# Altium integrated library Atmel Smart RF.IntLib: 33 symbols
Pins are listed as number, name and electrical type; pins without a type are passive.

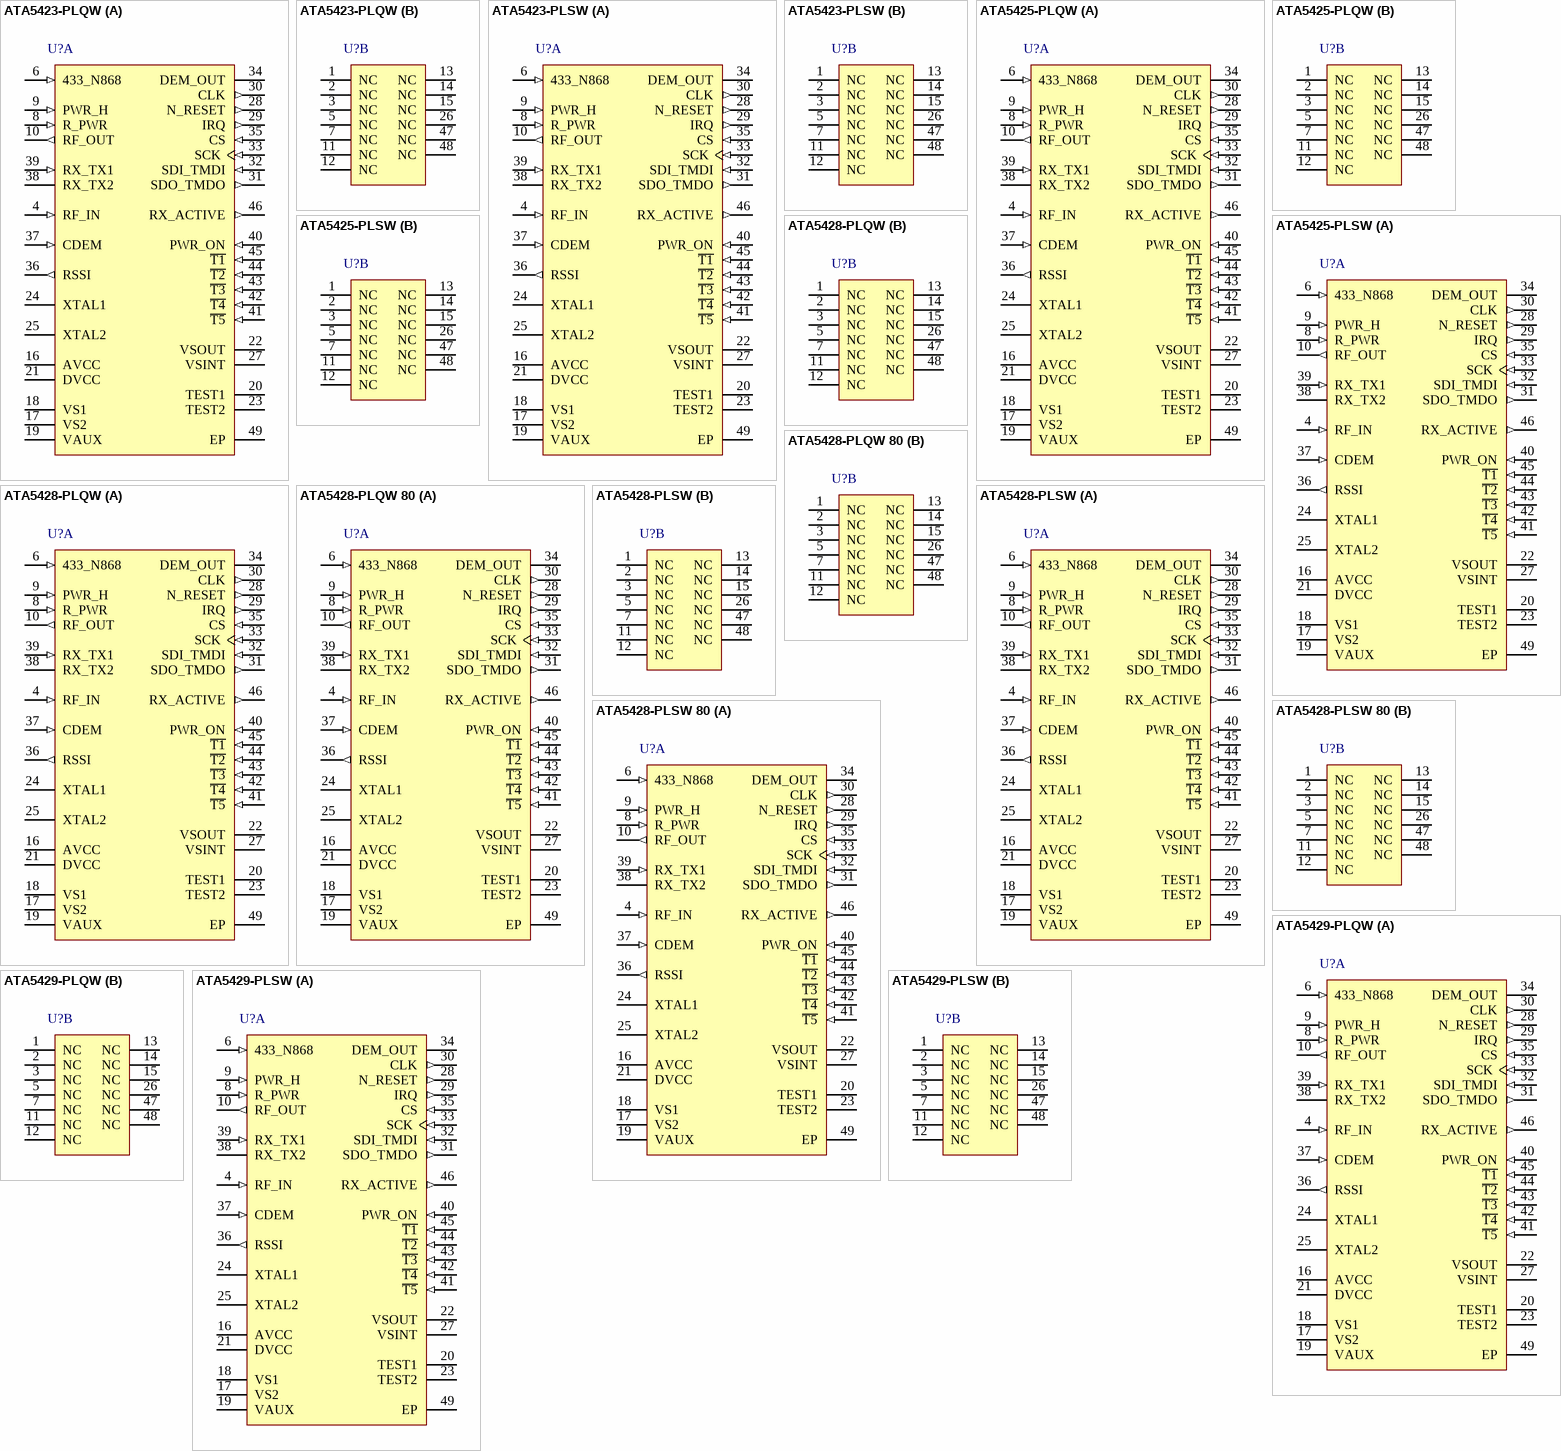
[diagram p0: symbols ATA5423-PLQW to ATA5429-PLSW]

## ATA5423-PLQW
designator U?
UHF ASK/FSK Transceiver 315MHz, 48-Pin QFN, RoHS Compliant, Reel; DatasheetVersion: revD, Oct-2007; PackageVersion: rev1, Jan-2003; PackageReference: 48QFN7X7; PackageDescription: 48-Pin Quad Flat No-Lead, Sawn, 7 x 7 x 1 mm Body, 0.5 mm Pitch, 5.1 mm Exposed Pad; ComponentLink1Description: Manufacturer URL; ComponentLink1URL: http://www.atmel.com/; ComponentLink2Description: Datasheet; ComponentLink2URL: http://www.atmel.com/Images/doc4841.pdf
footprint 48QFN7X7_N (QFN, 48-Leads, Body 7x7mm, Pitch 0.5mm, Thermal Pad 5.2x5.2mm, IPC Medium Density)
footprint 48QFN7X7_L (QFN, 48-Leads, Body 7x7mm, Pitch 0.5mm, Thermal Pad 5.2x5.2mm, IPC High Density)
footprint 48QFN7X7_M (QFN, 48-Leads, Body 7x7mm, Pitch 0.5mm, Thermal Pad 5.2x5.2mm, IPC Low Density)
part A pins: 4 RF_IN (in), 6 433_N868 (in), 8 R_PWR (in), 9 PWR_H (in), 10 RF_OUT (out), 16 AVCC (power), 17 VS2 (power), 18 VS1 (power), 19 VAUX (power), 20 TEST1 (power), 21 DVCC (power), 22 VSOUT (power), 23 TEST2 (power), 24 XTAL1, 25 XTAL2, 27 VSINT (power), 28 N_RESET (out), 29 IRQ (out), 30 CLK (out), 31 SDO_TMDO (out), 32 SDI_TMDI (in), 33 SCK (in), 34 DEM_OUT (oc), 35 CS (in), 36 RSSI (out), 37 CDEM (in), 38 RX_TX2 (power), 39 RX_TX1 (in), 40 PWR_ON (in), 41 ~{T5} (in), 42 ~{T4} (in), 43 ~{T3} (in), 44 ~{T2} (in), 45 ~{T1} (in), 46 RX_ACTIVE (out), 49 EP (power)
part B pins: 1 NC (power), 2 NC (power), 3 NC (power), 5 NC (power), 7 NC (power), 11 NC (power), 12 NC (power), 13 NC (power), 14 NC (power), 15 NC (power), 26 NC (power), 47 NC (power), 48 NC (power)

## ATA5423-PLSW
designator U?
UHF ASK/FSK Transceiver 315MHz, 48-Pin QFN, RoHS Compliant, Tube; DatasheetVersion: revD, Oct-2007; PackageVersion: rev1, Jan-2003; PackageReference: 48QFN7X7; PackageDescription: 48-Pin Quad Flat No-Lead, Sawn, 7 x 7 x 1 mm Body, 0.5 mm Pitch, 5.1 mm Exposed Pad; ComponentLink1Description: Manufacturer URL; ComponentLink1URL: http://www.atmel.com/; ComponentLink2Description: Datasheet; ComponentLink2URL: http://www.atmel.com/Images/doc4841.pdf
footprint 48QFN7X7_N (QFN, 48-Leads, Body 7x7mm, Pitch 0.5mm, Thermal Pad 5.2x5.2mm, IPC Medium Density)
footprint 48QFN7X7_L (QFN, 48-Leads, Body 7x7mm, Pitch 0.5mm, Thermal Pad 5.2x5.2mm, IPC High Density)
footprint 48QFN7X7_M (QFN, 48-Leads, Body 7x7mm, Pitch 0.5mm, Thermal Pad 5.2x5.2mm, IPC Low Density)
part A pins: 4 RF_IN (in), 6 433_N868 (in), 8 R_PWR (in), 9 PWR_H (in), 10 RF_OUT (out), 16 AVCC (power), 17 VS2 (power), 18 VS1 (power), 19 VAUX (power), 20 TEST1 (power), 21 DVCC (power), 22 VSOUT (power), 23 TEST2 (power), 24 XTAL1, 25 XTAL2, 27 VSINT (power), 28 N_RESET (out), 29 IRQ (out), 30 CLK (out), 31 SDO_TMDO (out), 32 SDI_TMDI (in), 33 SCK (in), 34 DEM_OUT (oc), 35 CS (in), 36 RSSI (out), 37 CDEM (in), 38 RX_TX2 (power), 39 RX_TX1 (in), 40 PWR_ON (in), 41 ~{T5} (in), 42 ~{T4} (in), 43 ~{T3} (in), 44 ~{T2} (in), 45 ~{T1} (in), 46 RX_ACTIVE (out), 49 EP (power)
part B pins: 1 NC (power), 2 NC (power), 3 NC (power), 5 NC (power), 7 NC (power), 11 NC (power), 12 NC (power), 13 NC (power), 14 NC (power), 15 NC (power), 26 NC (power), 47 NC (power), 48 NC (power)

## ATA5425-PLQW
designator U?
UHF ASK/FSK Transceiver 345MHz, 48-Pin QFN, RoHS Compliant, Reel; DatasheetVersion: revD, Oct-2007; PackageVersion: rev1, Jan-2003; PackageReference: 48QFN7X7; PackageDescription: 48-Pin Quad Flat No-Lead, Sawn, 7 x 7 x 1 mm Body, 0.5 mm Pitch, 5.1 mm Exposed Pad; ComponentLink1Description: Manufacturer URL; ComponentLink1URL: http://www.atmel.com/; ComponentLink2Description: Datasheet; ComponentLink2URL: http://www.atmel.com/Images/doc4841.pdf
footprint 48QFN7X7_N (QFN, 48-Leads, Body 7x7mm, Pitch 0.5mm, Thermal Pad 5.2x5.2mm, IPC Medium Density)
footprint 48QFN7X7_L (QFN, 48-Leads, Body 7x7mm, Pitch 0.5mm, Thermal Pad 5.2x5.2mm, IPC High Density)
footprint 48QFN7X7_M (QFN, 48-Leads, Body 7x7mm, Pitch 0.5mm, Thermal Pad 5.2x5.2mm, IPC Low Density)
part A pins: 4 RF_IN (in), 6 433_N868 (in), 8 R_PWR (in), 9 PWR_H (in), 10 RF_OUT (out), 16 AVCC (power), 17 VS2 (power), 18 VS1 (power), 19 VAUX (power), 20 TEST1 (power), 21 DVCC (power), 22 VSOUT (power), 23 TEST2 (power), 24 XTAL1, 25 XTAL2, 27 VSINT (power), 28 N_RESET (out), 29 IRQ (out), 30 CLK (out), 31 SDO_TMDO (out), 32 SDI_TMDI (in), 33 SCK (in), 34 DEM_OUT (oc), 35 CS (in), 36 RSSI (out), 37 CDEM (in), 38 RX_TX2 (power), 39 RX_TX1 (in), 40 PWR_ON (in), 41 ~{T5} (in), 42 ~{T4} (in), 43 ~{T3} (in), 44 ~{T2} (in), 45 ~{T1} (in), 46 RX_ACTIVE (out), 49 EP (power)
part B pins: 1 NC (power), 2 NC (power), 3 NC (power), 5 NC (power), 7 NC (power), 11 NC (power), 12 NC (power), 13 NC (power), 14 NC (power), 15 NC (power), 26 NC (power), 47 NC (power), 48 NC (power)

## ATA5425-PLSW
designator U?
UHF ASK/FSK Transceiver 345MHz, 48-Pin QFN, RoHS Compliant, Tube; DatasheetVersion: revD, Oct-2007; PackageVersion: rev1, Jan-2003; PackageReference: 48QFN7X7; PackageDescription: 48-Pin Quad Flat No-Lead, Sawn, 7 x 7 x 1 mm Body, 0.5 mm Pitch, 5.1 mm Exposed Pad; ComponentLink1Description: Manufacturer URL; ComponentLink1URL: http://www.atmel.com/; ComponentLink2Description: Datasheet; ComponentLink2URL: http://www.atmel.com/Images/doc4841.pdf
footprint 48QFN7X7_N (QFN, 48-Leads, Body 7x7mm, Pitch 0.5mm, Thermal Pad 5.2x5.2mm, IPC Medium Density)
footprint 48QFN7X7_L (QFN, 48-Leads, Body 7x7mm, Pitch 0.5mm, Thermal Pad 5.2x5.2mm, IPC High Density)
footprint 48QFN7X7_M (QFN, 48-Leads, Body 7x7mm, Pitch 0.5mm, Thermal Pad 5.2x5.2mm, IPC Low Density)
part A pins: 4 RF_IN (in), 6 433_N868 (in), 8 R_PWR (in), 9 PWR_H (in), 10 RF_OUT (out), 16 AVCC (power), 17 VS2 (power), 18 VS1 (power), 19 VAUX (power), 20 TEST1 (power), 21 DVCC (power), 22 VSOUT (power), 23 TEST2 (power), 24 XTAL1, 25 XTAL2, 27 VSINT (power), 28 N_RESET (out), 29 IRQ (out), 30 CLK (out), 31 SDO_TMDO (out), 32 SDI_TMDI (in), 33 SCK (in), 34 DEM_OUT (oc), 35 CS (in), 36 RSSI (out), 37 CDEM (in), 38 RX_TX2 (power), 39 RX_TX1 (in), 40 PWR_ON (in), 41 ~{T5} (in), 42 ~{T4} (in), 43 ~{T3} (in), 44 ~{T2} (in), 45 ~{T1} (in), 46 RX_ACTIVE (out), 49 EP (power)
part B pins: 1 NC (power), 2 NC (power), 3 NC (power), 5 NC (power), 7 NC (power), 11 NC (power), 12 NC (power), 13 NC (power), 14 NC (power), 15 NC (power), 26 NC (power), 47 NC (power), 48 NC (power)

## ATA5428-PLQW
designator U?
UHF ASK/FSK Transceiver 433 and 868MHz, 48-Pin QFN, RoHS Compliant, Reel; DatasheetVersion: revD, Oct-2007; PackageVersion: rev1, Jan-2003; PackageReference: 48QFN7X7; PackageDescription: 48-Pin Quad Flat No-Lead, Sawn, 7 x 7 x 1 mm Body, 0.5 mm Pitch, 5.1 mm Exposed Pad; ComponentLink1Description: Manufacturer URL; ComponentLink1URL: http://www.atmel.com/; ComponentLink2Description: Datasheet; ComponentLink2URL: http://www.atmel.com/Images/doc4841.pdf
footprint 48QFN7X7_N (QFN, 48-Leads, Body 7x7mm, Pitch 0.5mm, Thermal Pad 5.2x5.2mm, IPC Medium Density)
footprint 48QFN7X7_L (QFN, 48-Leads, Body 7x7mm, Pitch 0.5mm, Thermal Pad 5.2x5.2mm, IPC High Density)
footprint 48QFN7X7_M (QFN, 48-Leads, Body 7x7mm, Pitch 0.5mm, Thermal Pad 5.2x5.2mm, IPC Low Density)
part A pins: 4 RF_IN (in), 6 433_N868 (in), 8 R_PWR (in), 9 PWR_H (in), 10 RF_OUT (out), 16 AVCC (power), 17 VS2 (power), 18 VS1 (power), 19 VAUX (power), 20 TEST1 (power), 21 DVCC (power), 22 VSOUT (power), 23 TEST2 (power), 24 XTAL1, 25 XTAL2, 27 VSINT (power), 28 N_RESET (out), 29 IRQ (out), 30 CLK (out), 31 SDO_TMDO (out), 32 SDI_TMDI (in), 33 SCK (in), 34 DEM_OUT (oc), 35 CS (in), 36 RSSI (out), 37 CDEM (in), 38 RX_TX2 (power), 39 RX_TX1 (in), 40 PWR_ON (in), 41 ~{T5} (in), 42 ~{T4} (in), 43 ~{T3} (in), 44 ~{T2} (in), 45 ~{T1} (in), 46 RX_ACTIVE (out), 49 EP (power)
part B pins: 1 NC (power), 2 NC (power), 3 NC (power), 5 NC (power), 7 NC (power), 11 NC (power), 12 NC (power), 13 NC (power), 14 NC (power), 15 NC (power), 26 NC (power), 47 NC (power), 48 NC (power)

## ATA5428-PLQW 80
designator U?
UHF ASK/FSK Transceiver 433 and 868MHz, 48-Pin QFN, RoHS Compliant, Reel; DatasheetVersion: revD, Oct-2007; PackageVersion: rev1, Jan-2003; PackageReference: 48QFN7X7; PackageDescription: 48-Pin Quad Flat No-Lead, Sawn, 7 x 7 x 1 mm Body, 0.5 mm Pitch, 5.1 mm Exposed Pad; ComponentLink1Description: Manufacturer URL; ComponentLink1URL: http://www.atmel.com/; ComponentLink2Description: Datasheet; ComponentLink2URL: http://www.atmel.com/Images/doc4841.pdf
footprint 48QFN7X7_N (QFN, 48-Leads, Body 7x7mm, Pitch 0.5mm, Thermal Pad 5.2x5.2mm, IPC Medium Density)
footprint 48QFN7X7_L (QFN, 48-Leads, Body 7x7mm, Pitch 0.5mm, Thermal Pad 5.2x5.2mm, IPC High Density)
footprint 48QFN7X7_M (QFN, 48-Leads, Body 7x7mm, Pitch 0.5mm, Thermal Pad 5.2x5.2mm, IPC Low Density)
part A pins: 4 RF_IN (in), 6 433_N868 (in), 8 R_PWR (in), 9 PWR_H (in), 10 RF_OUT (out), 16 AVCC (power), 17 VS2 (power), 18 VS1 (power), 19 VAUX (power), 20 TEST1 (power), 21 DVCC (power), 22 VSOUT (power), 23 TEST2 (power), 24 XTAL1, 25 XTAL2, 27 VSINT (power), 28 N_RESET (out), 29 IRQ (out), 30 CLK (out), 31 SDO_TMDO (out), 32 SDI_TMDI (in), 33 SCK (in), 34 DEM_OUT (oc), 35 CS (in), 36 RSSI (out), 37 CDEM (in), 38 RX_TX2 (power), 39 RX_TX1 (in), 40 PWR_ON (in), 41 ~{T5} (in), 42 ~{T4} (in), 43 ~{T3} (in), 44 ~{T2} (in), 45 ~{T1} (in), 46 RX_ACTIVE (out), 49 EP (power)
part B pins: 1 NC (power), 2 NC (power), 3 NC (power), 5 NC (power), 7 NC (power), 11 NC (power), 12 NC (power), 13 NC (power), 14 NC (power), 15 NC (power), 26 NC (power), 47 NC (power), 48 NC (power)

## ATA5428-PLSW
designator U?
UHF ASK/FSK Transceiver 433 and 868MHz, 48-Pin QFN, RoHS Compliant, Tube; DatasheetVersion: revD, Oct-2007; PackageVersion: rev1, Jan-2003; PackageReference: 48QFN7X7; PackageDescription: 48-Pin Quad Flat No-Lead, Sawn, 7 x 7 x 1 mm Body, 0.5 mm Pitch, 5.1 mm Exposed Pad; ComponentLink1Description: Manufacturer URL; ComponentLink1URL: http://www.atmel.com/; ComponentLink2Description: Datasheet; ComponentLink2URL: http://www.atmel.com/Images/doc4841.pdf
footprint 48QFN7X7_N (QFN, 48-Leads, Body 7x7mm, Pitch 0.5mm, Thermal Pad 5.2x5.2mm, IPC Medium Density)
footprint 48QFN7X7_L (QFN, 48-Leads, Body 7x7mm, Pitch 0.5mm, Thermal Pad 5.2x5.2mm, IPC High Density)
footprint 48QFN7X7_M (QFN, 48-Leads, Body 7x7mm, Pitch 0.5mm, Thermal Pad 5.2x5.2mm, IPC Low Density)
part A pins: 4 RF_IN (in), 6 433_N868 (in), 8 R_PWR (in), 9 PWR_H (in), 10 RF_OUT (out), 16 AVCC (power), 17 VS2 (power), 18 VS1 (power), 19 VAUX (power), 20 TEST1 (power), 21 DVCC (power), 22 VSOUT (power), 23 TEST2 (power), 24 XTAL1, 25 XTAL2, 27 VSINT (power), 28 N_RESET (out), 29 IRQ (out), 30 CLK (out), 31 SDO_TMDO (out), 32 SDI_TMDI (in), 33 SCK (in), 34 DEM_OUT (oc), 35 CS (in), 36 RSSI (out), 37 CDEM (in), 38 RX_TX2 (power), 39 RX_TX1 (in), 40 PWR_ON (in), 41 ~{T5} (in), 42 ~{T4} (in), 43 ~{T3} (in), 44 ~{T2} (in), 45 ~{T1} (in), 46 RX_ACTIVE (out), 49 EP (power)
part B pins: 1 NC (power), 2 NC (power), 3 NC (power), 5 NC (power), 7 NC (power), 11 NC (power), 12 NC (power), 13 NC (power), 14 NC (power), 15 NC (power), 26 NC (power), 47 NC (power), 48 NC (power)

## ATA5428-PLSW 80
designator U?
UHF ASK/FSK Transceiver 433 and 868MHz, 48-Pin QFN, RoHS Compliant, Tube; DatasheetVersion: revD, Oct-2007; PackageVersion: rev1, Jan-2003; PackageReference: 48QFN7X7; PackageDescription: 48-Pin Quad Flat No-Lead, Sawn, 7 x 7 x 1 mm Body, 0.5 mm Pitch, 5.1 mm Exposed Pad; ComponentLink1Description: Manufacturer URL; ComponentLink1URL: http://www.atmel.com/; ComponentLink2Description: Datasheet; ComponentLink2URL: http://www.atmel.com/Images/doc4841.pdf
footprint 48QFN7X7_N (QFN, 48-Leads, Body 7x7mm, Pitch 0.5mm, Thermal Pad 5.2x5.2mm, IPC Medium Density)
footprint 48QFN7X7_L (QFN, 48-Leads, Body 7x7mm, Pitch 0.5mm, Thermal Pad 5.2x5.2mm, IPC High Density)
footprint 48QFN7X7_M (QFN, 48-Leads, Body 7x7mm, Pitch 0.5mm, Thermal Pad 5.2x5.2mm, IPC Low Density)
part A pins: 4 RF_IN (in), 6 433_N868 (in), 8 R_PWR (in), 9 PWR_H (in), 10 RF_OUT (out), 16 AVCC (power), 17 VS2 (power), 18 VS1 (power), 19 VAUX (power), 20 TEST1 (power), 21 DVCC (power), 22 VSOUT (power), 23 TEST2 (power), 24 XTAL1, 25 XTAL2, 27 VSINT (power), 28 N_RESET (out), 29 IRQ (out), 30 CLK (out), 31 SDO_TMDO (out), 32 SDI_TMDI (in), 33 SCK (in), 34 DEM_OUT (oc), 35 CS (in), 36 RSSI (out), 37 CDEM (in), 38 RX_TX2 (power), 39 RX_TX1 (in), 40 PWR_ON (in), 41 ~{T5} (in), 42 ~{T4} (in), 43 ~{T3} (in), 44 ~{T2} (in), 45 ~{T1} (in), 46 RX_ACTIVE (out), 49 EP (power)
part B pins: 1 NC (power), 2 NC (power), 3 NC (power), 5 NC (power), 7 NC (power), 11 NC (power), 12 NC (power), 13 NC (power), 14 NC (power), 15 NC (power), 26 NC (power), 47 NC (power), 48 NC (power)

## ATA5429-PLQW
designator U?
UHF ASK/FSK Transceiver 915MHz, 48-Pin QFN, RoHS Compliant, Reel; DatasheetVersion: revD, Oct-2007; PackageVersion: rev1, Jan-2003; PackageReference: 48QFN7X7; PackageDescription: 48-Pin Quad Flat No-Lead, Sawn, 7 x 7 x 1 mm Body, 0.5 mm Pitch, 5.1 mm Exposed Pad; ComponentLink1Description: Manufacturer URL; ComponentLink1URL: http://www.atmel.com/; ComponentLink2Description: Datasheet; ComponentLink2URL: http://www.atmel.com/Images/doc4841.pdf
footprint 48QFN7X7_N (QFN, 48-Leads, Body 7x7mm, Pitch 0.5mm, Thermal Pad 5.2x5.2mm, IPC Medium Density)
footprint 48QFN7X7_L (QFN, 48-Leads, Body 7x7mm, Pitch 0.5mm, Thermal Pad 5.2x5.2mm, IPC High Density)
footprint 48QFN7X7_M (QFN, 48-Leads, Body 7x7mm, Pitch 0.5mm, Thermal Pad 5.2x5.2mm, IPC Low Density)
part A pins: 4 RF_IN (in), 6 433_N868 (in), 8 R_PWR (in), 9 PWR_H (in), 10 RF_OUT (out), 16 AVCC (power), 17 VS2 (power), 18 VS1 (power), 19 VAUX (power), 20 TEST1 (power), 21 DVCC (power), 22 VSOUT (power), 23 TEST2 (power), 24 XTAL1, 25 XTAL2, 27 VSINT (power), 28 N_RESET (out), 29 IRQ (out), 30 CLK (out), 31 SDO_TMDO (out), 32 SDI_TMDI (in), 33 SCK (in), 34 DEM_OUT (oc), 35 CS (in), 36 RSSI (out), 37 CDEM (in), 38 RX_TX2 (power), 39 RX_TX1 (in), 40 PWR_ON (in), 41 ~{T5} (in), 42 ~{T4} (in), 43 ~{T3} (in), 44 ~{T2} (in), 45 ~{T1} (in), 46 RX_ACTIVE (out), 49 EP (power)
part B pins: 1 NC (power), 2 NC (power), 3 NC (power), 5 NC (power), 7 NC (power), 11 NC (power), 12 NC (power), 13 NC (power), 14 NC (power), 15 NC (power), 26 NC (power), 47 NC (power), 48 NC (power)

## ATA5429-PLSW
designator U?
UHF ASK/FSK Transceiver 915MHz, 48-Pin QFN, RoHS Compliant, Tube; DatasheetVersion: revD, Oct-2007; PackageVersion: rev1, Jan-2003; PackageReference: 48QFN7X7; PackageDescription: 48-Pin Quad Flat No-Lead, Sawn, 7 x 7 x 1 mm Body, 0.5 mm Pitch, 5.1 mm Exposed Pad; ComponentLink1Description: Manufacturer URL; ComponentLink1URL: http://www.atmel.com/; ComponentLink2Description: Datasheet; ComponentLink2URL: http://www.atmel.com/Images/doc4841.pdf
footprint 48QFN7X7_N (QFN, 48-Leads, Body 7x7mm, Pitch 0.5mm, Thermal Pad 5.2x5.2mm, IPC Medium Density)
footprint 48QFN7X7_L (QFN, 48-Leads, Body 7x7mm, Pitch 0.5mm, Thermal Pad 5.2x5.2mm, IPC High Density)
footprint 48QFN7X7_M (QFN, 48-Leads, Body 7x7mm, Pitch 0.5mm, Thermal Pad 5.2x5.2mm, IPC Low Density)
part A pins: 4 RF_IN (in), 6 433_N868 (in), 8 R_PWR (in), 9 PWR_H (in), 10 RF_OUT (out), 16 AVCC (power), 17 VS2 (power), 18 VS1 (power), 19 VAUX (power), 20 TEST1 (power), 21 DVCC (power), 22 VSOUT (power), 23 TEST2 (power), 24 XTAL1, 25 XTAL2, 27 VSINT (power), 28 N_RESET (out), 29 IRQ (out), 30 CLK (out), 31 SDO_TMDO (out), 32 SDI_TMDI (in), 33 SCK (in), 34 DEM_OUT (oc), 35 CS (in), 36 RSSI (out), 37 CDEM (in), 38 RX_TX2 (power), 39 RX_TX1 (in), 40 PWR_ON (in), 41 ~{T5} (in), 42 ~{T4} (in), 43 ~{T3} (in), 44 ~{T2} (in), 45 ~{T1} (in), 46 RX_ACTIVE (out), 49 EP (power)
part B pins: 1 NC (power), 2 NC (power), 3 NC (power), 5 NC (power), 7 NC (power), 11 NC (power), 12 NC (power), 13 NC (power), 14 NC (power), 15 NC (power), 26 NC (power), 47 NC (power), 48 NC (power)

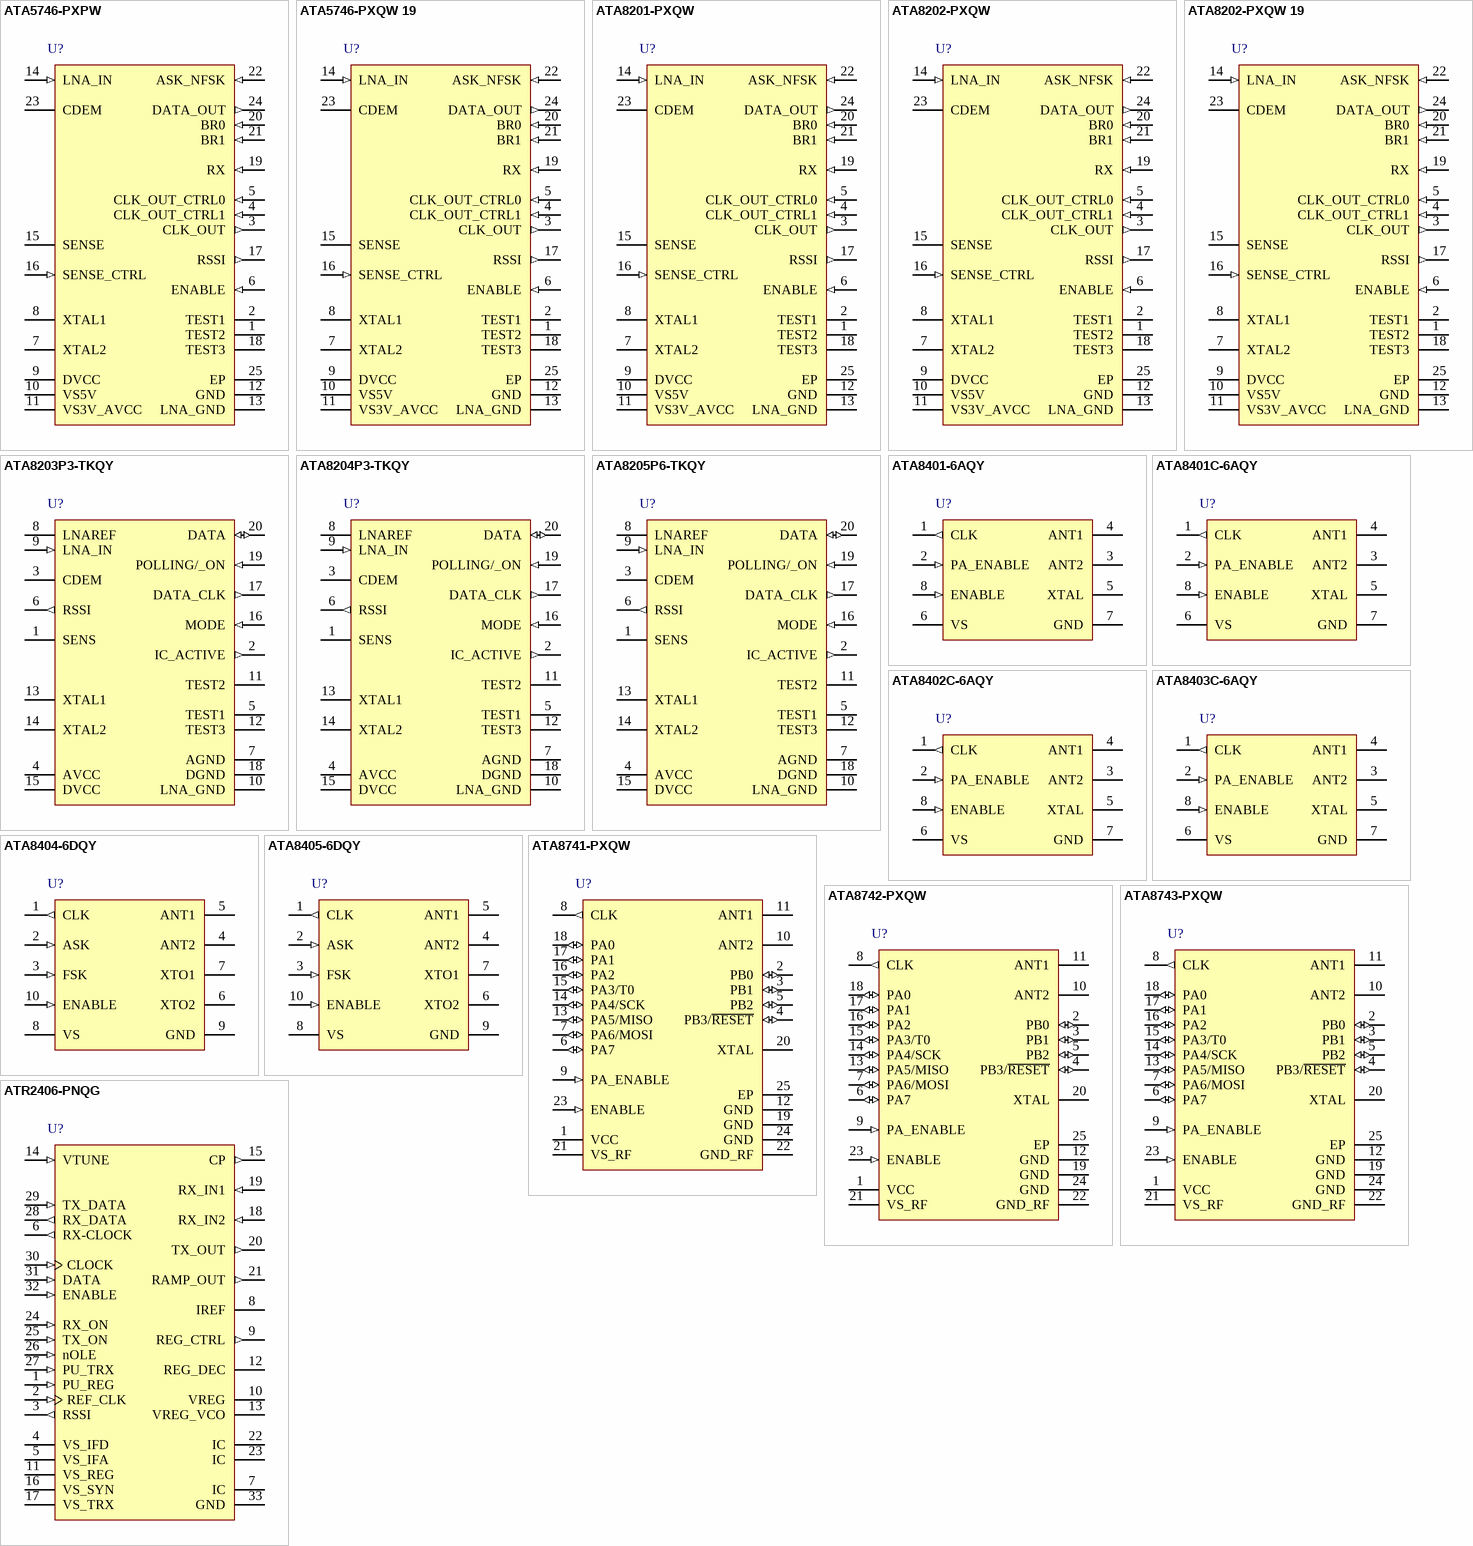
[diagram p1: symbols ATA5746-PXPW to ATR2406-PNQG]

## ATA5746-PXPW
designator U?
UHF ASK/FSK Receiver 315MHz, 24-Pin QFN; DatasheetVersion: revC, Apr-2009; PackageVersion: rev1, Nov-2005; PackageReference: 24QFN5X5; PackageDescription: 24-Pin Quad Flat No-Lead, 5 x 5 mm Body, 0.65 mm Pitch, 3.6 x 3.6 mm Exposed Pad; Code_JEDEC: MO-220; ComponentLink1Description: Manufacturer URL; ComponentLink1URL: http://www.atmel.com/; ComponentLink2Description: Datasheet; ComponentLink2URL: http://www.atmel.com/Images/doc4971.pdf
footprint 24QFN5X5_N (QFN, 24-Leads, Body 5x5mm, Pitch 0.65mm, Thermal Pad 3.7x3.7mm, IPC Medium Density)
footprint 24QFN5X5_L (QFN, 24-Leads, Body 5x5mm, Pitch 0.65mm, Thermal Pad 3.7x3.7mm, IPC High Density)
footprint 24QFN5X5_M (QFN, 24-Leads, Body 5x5mm, Pitch 0.65mm, Thermal Pad 3.7x3.7mm, IPC Low Density)
pins: 1 TEST2 (power), 2 TEST1 (power), 3 CLK_OUT (out), 4 CLK_OUT_CTRL1 (in), 5 CLK_OUT_CTRL0 (in), 6 ENABLE (in), 7 XTAL2, 8 XTAL1, 9 DVCC (power), 10 VS5V (power), 11 VS3V_AVCC (power), 12 GND (power), 13 LNA_GND (power), 14 LNA_IN (in), 15 SENSE, 16 SENSE_CTRL (in), 17 RSSI (out), 18 TEST3 (power), 19 RX (in), 20 BR0 (in), 21 BR1 (in), 22 ASK_NFSK (in), 23 CDEM, 24 DATA_OUT (out), 25 EP (power)

## ATA5746-PXQW 19
designator U?
UHF ASK/FSK Receiver 315MHz, 24-Pin QFN; DatasheetVersion: revC, Apr-2009; PackageVersion: rev1, Nov-2005; PackageReference: 24QFN5X5; PackageDescription: 24-Pin Quad Flat No-Lead, 5 x 5 mm Body, 0.65 mm Pitch, 3.6 x 3.6 mm Exposed Pad; Code_JEDEC: MO-220; ComponentLink1Description: Manufacturer URL; ComponentLink1URL: http://www.atmel.com/; ComponentLink2Description: Datasheet; ComponentLink2URL: http://www.atmel.com/Images/doc4971.pdf
footprint 24QFN5X5_N (QFN, 24-Leads, Body 5x5mm, Pitch 0.65mm, Thermal Pad 3.7x3.7mm, IPC Medium Density)
footprint 24QFN5X5_L (QFN, 24-Leads, Body 5x5mm, Pitch 0.65mm, Thermal Pad 3.7x3.7mm, IPC High Density)
footprint 24QFN5X5_M (QFN, 24-Leads, Body 5x5mm, Pitch 0.65mm, Thermal Pad 3.7x3.7mm, IPC Low Density)
pins: 1 TEST2 (power), 2 TEST1 (power), 3 CLK_OUT (out), 4 CLK_OUT_CTRL1 (in), 5 CLK_OUT_CTRL0 (in), 6 ENABLE (in), 7 XTAL2, 8 XTAL1, 9 DVCC (power), 10 VS5V (power), 11 VS3V_AVCC (power), 12 GND (power), 13 LNA_GND (power), 14 LNA_IN (in), 15 SENSE, 16 SENSE_CTRL (in), 17 RSSI (out), 18 TEST3 (power), 19 RX (in), 20 BR0 (in), 21 BR1 (in), 22 ASK_NFSK (in), 23 CDEM, 24 DATA_OUT (out), 25 EP (power)

## ATA8201-PXQW
designator U?
UHF ASK/FSK Receiver 315MHz, 24-Pin QFN, Pb-Free, 6000 pcs.; DatasheetVersion: revC, Apr-2009; PackageVersion: rev1, Nov-2005; PackageReference: 24QFN5X5; PackageDescription: 24-Pin Quad Flat No-Lead, 5 x 5 mm Body, 0.65 mm Pitch, 3.6 x 3.6 mm Exposed Pad; Code_JEDEC: MO-220; ComponentLink1Description: Manufacturer URL; ComponentLink1URL: http://www.atmel.com/; ComponentLink2Description: Datasheet; ComponentLink2URL: http://www.atmel.com/Images/doc4971.pdf
footprint 24QFN5X5_N (QFN, 24-Leads, Body 5x5mm, Pitch 0.65mm, Thermal Pad 3.7x3.7mm, IPC Medium Density)
footprint 24QFN5X5_L (QFN, 24-Leads, Body 5x5mm, Pitch 0.65mm, Thermal Pad 3.7x3.7mm, IPC High Density)
footprint 24QFN5X5_M (QFN, 24-Leads, Body 5x5mm, Pitch 0.65mm, Thermal Pad 3.7x3.7mm, IPC Low Density)
pins: 1 TEST2 (power), 2 TEST1 (power), 3 CLK_OUT (out), 4 CLK_OUT_CTRL1 (in), 5 CLK_OUT_CTRL0 (in), 6 ENABLE (in), 7 XTAL2, 8 XTAL1, 9 DVCC (power), 10 VS5V (power), 11 VS3V_AVCC (power), 12 GND (power), 13 LNA_GND (power), 14 LNA_IN (in), 15 SENSE, 16 SENSE_CTRL (in), 17 RSSI (out), 18 TEST3 (power), 19 RX (in), 20 BR0 (in), 21 BR1 (in), 22 ASK_NFSK (in), 23 CDEM, 24 DATA_OUT (out), 25 EP (power)

## ATA8202-PXQW
designator U?
UHF ASK/FSK Receiver 315MHz, 24-Pin QFN, Pb-Free, 6000 pcs.; DatasheetVersion: revC, Apr-2009; PackageVersion: rev1, Nov-2005; PackageReference: 24QFN5X5; PackageDescription: 24-Pin Quad Flat No-Lead, 5 x 5 mm Body, 0.65 mm Pitch, 3.6 x 3.6 mm Exposed Pad; Code_JEDEC: MO-220; ComponentLink1Description: Manufacturer URL; ComponentLink1URL: http://www.atmel.com/; ComponentLink2Description: Datasheet; ComponentLink2URL: http://www.atmel.com/Images/doc4971.pdf
footprint 24QFN5X5_N (QFN, 24-Leads, Body 5x5mm, Pitch 0.65mm, Thermal Pad 3.7x3.7mm, IPC Medium Density)
footprint 24QFN5X5_L (QFN, 24-Leads, Body 5x5mm, Pitch 0.65mm, Thermal Pad 3.7x3.7mm, IPC High Density)
footprint 24QFN5X5_M (QFN, 24-Leads, Body 5x5mm, Pitch 0.65mm, Thermal Pad 3.7x3.7mm, IPC Low Density)
pins: 1 TEST2 (power), 2 TEST1 (power), 3 CLK_OUT (out), 4 CLK_OUT_CTRL1 (in), 5 CLK_OUT_CTRL0 (in), 6 ENABLE (in), 7 XTAL2, 8 XTAL1, 9 DVCC (power), 10 VS5V (power), 11 VS3V_AVCC (power), 12 GND (power), 13 LNA_GND (power), 14 LNA_IN (in), 15 SENSE, 16 SENSE_CTRL (in), 17 RSSI (out), 18 TEST3 (power), 19 RX (in), 20 BR0 (in), 21 BR1 (in), 22 ASK_NFSK (in), 23 CDEM, 24 DATA_OUT (out), 25 EP (power)

## ATA8202-PXQW 19
designator U?
UHF ASK/FSK Receiver 315MHz, 24-Pin QFN; DatasheetVersion: revC, Apr-2009; PackageVersion: rev1, Nov-2005; PackageReference: 24QFN5X5; PackageDescription: 24-Pin Quad Flat No-Lead, 5 x 5 mm Body, 0.65 mm Pitch, 3.6 x 3.6 mm Exposed Pad; Code_JEDEC: MO-220; ComponentLink1Description: Manufacturer URL; ComponentLink1URL: http://www.atmel.com/; ComponentLink2Description: Datasheet; ComponentLink2URL: http://www.atmel.com/Images/doc4971.pdf
footprint 24QFN5X5_N (QFN, 24-Leads, Body 5x5mm, Pitch 0.65mm, Thermal Pad 3.7x3.7mm, IPC Medium Density)
footprint 24QFN5X5_L (QFN, 24-Leads, Body 5x5mm, Pitch 0.65mm, Thermal Pad 3.7x3.7mm, IPC High Density)
footprint 24QFN5X5_M (QFN, 24-Leads, Body 5x5mm, Pitch 0.65mm, Thermal Pad 3.7x3.7mm, IPC Low Density)
pins: 1 TEST2 (power), 2 TEST1 (power), 3 CLK_OUT (out), 4 CLK_OUT_CTRL1 (in), 5 CLK_OUT_CTRL0 (in), 6 ENABLE (in), 7 XTAL2, 8 XTAL1, 9 DVCC (power), 10 VS5V (power), 11 VS3V_AVCC (power), 12 GND (power), 13 LNA_GND (power), 14 LNA_IN (in), 15 SENSE, 16 SENSE_CTRL (in), 17 RSSI (out), 18 TEST3 (power), 19 RX (in), 20 BR0 (in), 21 BR1 (in), 22 ASK_NFSK (in), 23 CDEM, 24 DATA_OUT (out), 25 EP (power)

## ATA8203P3-TKQY
designator U?
Industrial UHF ASK/FSK Receiver 315MHz, 20-Pin SSO, 4000 pcs.; DatasheetVersion: revB, Apr-2009; PackageVersion: 2005; PackageReference: SSO20; PackageDescription: 20-Pin Shrink SOP, 6.6 x 4.4 x 1.3 mm Body, 0.65 mm Pitch; ComponentLink1Description: Manufacturer URL; ComponentLink1URL: http://www.atmel.com/; ComponentLink2Description: Datasheet; ComponentLink2URL: http://www.atmel.com/Images/doc9121.pdf
footprint SSO20_N (SOP, 20-Leads, Body 6.6x4.4mm, Pitch 0.65mm, IPC Medium Density)
footprint SSO20_L (SOP, 20-Leads, Body 6.6x4.4mm, Pitch 0.65mm, IPC High Density)
footprint SSO20_M (SOP, 20-Leads, Body 6.6x4.4mm, Pitch 0.65mm, IPC Low Density)
pins: 1 SENS, 2 IC_ACTIVE (out), 3 CDEM, 4 AVCC (power), 5 TEST1 (power), 6 RSSI (out), 7 AGND (power), 8 LNAREF, 9 LNA_IN (in), 10 LNA_GND (power), 11 TEST2, 12 TEST3 (power), 13 XTAL1, 14 XTAL2, 15 DVCC (power), 16 MODE (in), 17 DATA_CLK (out), 18 DGND (power), 19 POLLING/_ON (in), 20 DATA (io)

## ATA8204P3-TKQY
designator U?
Industrial UHF ASK/FSK Receiver 433MHz, 20-Pin SSO, 4000 pcs.; DatasheetVersion: revB, Apr-2009; PackageVersion: 2005; PackageReference: SSO20; PackageDescription: 20-Pin Shrink SOP, 6.6 x 4.4 x 1.3 mm Body, 0.65 mm Pitch; ComponentLink1Description: Manufacturer URL; ComponentLink1URL: http://www.atmel.com/; ComponentLink2Description: Datasheet; ComponentLink2URL: http://www.atmel.com/Images/doc9121.pdf
footprint SSO20_N (SOP, 20-Leads, Body 6.6x4.4mm, Pitch 0.65mm, IPC Medium Density)
footprint SSO20_L (SOP, 20-Leads, Body 6.6x4.4mm, Pitch 0.65mm, IPC High Density)
footprint SSO20_M (SOP, 20-Leads, Body 6.6x4.4mm, Pitch 0.65mm, IPC Low Density)
pins: 1 SENS, 2 IC_ACTIVE (out), 3 CDEM, 4 AVCC (power), 5 TEST1 (power), 6 RSSI (out), 7 AGND (power), 8 LNAREF, 9 LNA_IN (in), 10 LNA_GND (power), 11 TEST2, 12 TEST3 (power), 13 XTAL1, 14 XTAL2, 15 DVCC (power), 16 MODE (in), 17 DATA_CLK (out), 18 DGND (power), 19 POLLING/_ON (in), 20 DATA (io)

## ATA8205P6-TKQY
designator U?
Industrial UHF ASK/FSK Receiver 868MHz, 20-Pin SSO, 4000 pcs.; DatasheetVersion: revB, Apr-2009; PackageVersion: 2005; PackageReference: SSO20; PackageDescription: 20-Pin Shrink SOP, 6.6 x 4.4 x 1.3 mm Body, 0.65 mm Pitch; ComponentLink1Description: Manufacturer URL; ComponentLink1URL: http://www.atmel.com/; ComponentLink2Description: Datasheet; ComponentLink2URL: http://www.atmel.com/Images/doc9121.pdf
footprint SSO20_N (SOP, 20-Leads, Body 6.6x4.4mm, Pitch 0.65mm, IPC Medium Density)
footprint SSO20_L (SOP, 20-Leads, Body 6.6x4.4mm, Pitch 0.65mm, IPC High Density)
footprint SSO20_M (SOP, 20-Leads, Body 6.6x4.4mm, Pitch 0.65mm, IPC Low Density)
pins: 1 SENS, 2 IC_ACTIVE (out), 3 CDEM, 4 AVCC (power), 5 TEST1 (power), 6 RSSI (out), 7 AGND (power), 8 LNAREF, 9 LNA_IN (in), 10 LNA_GND (power), 11 TEST2, 12 TEST3 (power), 13 XTAL1, 14 XTAL2, 15 DVCC (power), 16 MODE (in), 17 DATA_CLK (out), 18 DGND (power), 19 POLLING/_ON (in), 20 DATA (io)

## ATA8401-6AQY
designator U?
UHF ASK/FSK Industrial Transmitter 310 to 350MHz, 8-Pin TSSOP; DatasheetVersion: revE, Mar-2012; PackageVersion: rev2, Mar-2004; PackageReference: TSSOP8L; PackageDescription: 8-Pin Thin Shrink Small Outline Package, 3 x 3 mm Body, 0.65 mm Pitch (TSSOP); ComponentLink1Description: Manufacturer URL; ComponentLink1URL: http://www.atmel.com/; ComponentLink2Description: Datasheet; ComponentLink2URL: http://www.atmel.com/Images/doc4984.pdf
footprint TSSOP8L_N (TSOP, 8-Leads, Body 3x3mm, Pitch 0.65mm, IPC Medium Density)
footprint TSSOP8L_L (TSOP, 8-Leads, Body 3x3mm, Pitch 0.65mm, IPC High Density)
footprint TSSOP8L_M (TSOP, 8-Leads, Body 3x3mm, Pitch 0.65mm, IPC Low Density)
pins: 1 CLK (out), 2 PA_ENABLE (in), 3 ANT2 (oe), 4 ANT1 (oc), 5 XTAL, 6 VS (power), 7 GND (power), 8 ENABLE (in)

## ATA8401C-6AQY
designator U?
UHF ASK/FSK Industrial Transmitter 310 to 350MHz, 8-Pin TSSOP, Pb-Free, 5K Reel; DatasheetVersion: revE, Mar-2012; PackageVersion: rev2, Mar-2004; PackageReference: TSSOP8L; PackageDescription: 8-Pin Thin Shrink Small Outline Package, 3 x 3 mm Body, 0.65 mm Pitch (TSSOP); ComponentLink1Description: Manufacturer URL; ComponentLink1URL: http://www.atmel.com/; ComponentLink2Description: Datasheet; ComponentLink2URL: http://www.atmel.com/Images/doc4984.pdf
footprint TSSOP8L_N (TSOP, 8-Leads, Body 3x3mm, Pitch 0.65mm, IPC Medium Density)
footprint TSSOP8L_L (TSOP, 8-Leads, Body 3x3mm, Pitch 0.65mm, IPC High Density)
footprint TSSOP8L_M (TSOP, 8-Leads, Body 3x3mm, Pitch 0.65mm, IPC Low Density)
pins: 1 CLK (out), 2 PA_ENABLE (in), 3 ANT2 (oe), 4 ANT1 (oc), 5 XTAL, 6 VS (power), 7 GND (power), 8 ENABLE (in)

## ATA8402C-6AQY
designator U?
UHF ASK/FSK Industrial Transmitter 429 to 439MHz, 8-Pin TSSOP, Pb-Free, 5K Reel; DatasheetVersion: revB, Mar-2012; PackageVersion: rev2, Mar-2004; PackageReference: TSSOP8L; PackageDescription: 8-Pin Thin Shrink Small Outline Package, 3 x 3 mm Body, 0.65 mm Pitch (TSSOP); ComponentLink1Description: Manufacturer URL; ComponentLink1URL: http://www.atmel.com/; ComponentLink2Description: Datasheet; ComponentLink2URL: http://www.atmel.com/Images/doc4982.pdf
footprint TSSOP8L_N (TSOP, 8-Leads, Body 3x3mm, Pitch 0.65mm, IPC Medium Density)
footprint TSSOP8L_L (TSOP, 8-Leads, Body 3x3mm, Pitch 0.65mm, IPC High Density)
footprint TSSOP8L_M (TSOP, 8-Leads, Body 3x3mm, Pitch 0.65mm, IPC Low Density)
pins: 1 CLK (out), 2 PA_ENABLE (in), 3 ANT2 (oe), 4 ANT1 (oc), 5 XTAL, 6 VS (power), 7 GND (power), 8 ENABLE (in)

## ATA8403C-6AQY
designator U?
UHF ASK/FSK Industrial Transmitter 868 to 928MHz, 8-Pin TSSOP, Pb-Free, 5K Reel; DatasheetVersion: revC, Mar-2012; PackageVersion: rev2, Mar-2004; PackageReference: TSSOP8L; PackageDescription: 8-Pin Thin Shrink Small Outline Package, 3 x 3 mm Body, 0.65 mm Pitch (TSSOP); ComponentLink1Description: Manufacturer URL; ComponentLink1URL: http://www.atmel.com/; ComponentLink2Description: Datasheet; ComponentLink2URL: http://www.atmel.com/Images/doc4983.pdf
footprint TSSOP8L_N (TSOP, 8-Leads, Body 3x3mm, Pitch 0.65mm, IPC Medium Density)
footprint TSSOP8L_L (TSOP, 8-Leads, Body 3x3mm, Pitch 0.65mm, IPC High Density)
footprint TSSOP8L_M (TSOP, 8-Leads, Body 3x3mm, Pitch 0.65mm, IPC Low Density)
pins: 1 CLK (out), 2 PA_ENABLE (in), 3 ANT2 (oe), 4 ANT1 (oc), 5 XTAL, 6 VS (power), 7 GND (power), 8 ENABLE (in)

## ATA8404-6DQY
designator U?
UHF ASK/FSK Industrial Transmitter 313 to 317MHz, 10-Pin TSSOP, Pb-Free; DatasheetVersion: revE, Oct-2011; PackageVersion: rev3, Sep-2005; PackageReference: TSSOP10; PackageDescription: 10-Pin Thin Shrink Small Outline Package, 3 x 3 mm Body, 0.5 mm Pitch (TSSOP); Code_JEDEC: MO-187; ComponentLink1Description: Manufacturer URL; ComponentLink1URL: http://www.atmel.com/; ComponentLink2Description: Datasheet; ComponentLink2URL: http://www.atmel.com/Images/doc9136.pdf
footprint TSSOP10_N (TSSOP, 10-Leads, Body 3x3mm, Pitch 0.5mm, IPC Medium Density)
footprint TSSOP10_L (TSSOP, 10-Leads, Body 3x3mm, Pitch 0.5mm, IPC High Density)
footprint TSSOP10_M (TSSOP, 10-Leads, Body 3x3mm, Pitch 0.5mm, IPC Low Density)
pins: 1 CLK (out), 2 ASK (in), 3 FSK (in), 4 ANT2 (oe), 5 ANT1 (oc), 6 XTO2, 7 XTO1, 8 VS (power), 9 GND (power), 10 ENABLE (in)

## ATA8405-6DQY
designator U?
UHF ASK/FSK Industrial Transmitter 432 to 448MHz, 10-Pin TSSOP, Pb-Free; DatasheetVersion: revE, Oct-2011; PackageVersion: rev3, Sep-2005; PackageReference: TSSOP10; PackageDescription: 10-Pin Thin Shrink Small Outline Package, 3 x 3 mm Body, 0.5 mm Pitch (TSSOP); Code_JEDEC: MO-187; ComponentLink1Description: Manufacturer URL; ComponentLink1URL: http://www.atmel.com/; ComponentLink2Description: Datasheet; ComponentLink2URL: http://www.atmel.com/Images/doc9136.pdf
footprint TSSOP10_N (TSSOP, 10-Leads, Body 3x3mm, Pitch 0.5mm, IPC Medium Density)
footprint TSSOP10_L (TSSOP, 10-Leads, Body 3x3mm, Pitch 0.5mm, IPC High Density)
footprint TSSOP10_M (TSSOP, 10-Leads, Body 3x3mm, Pitch 0.5mm, IPC Low Density)
pins: 1 CLK (out), 2 ASK (in), 3 FSK (in), 4 ANT2 (oe), 5 ANT1 (oc), 6 XTO2, 7 XTO1, 8 VS (power), 9 GND (power), 10 ENABLE (in)

## ATA8741-PXQW
designator U?
Microcontroller with UHF ASK/FSK Transmitter for 310 to 350 MHz, 24-Pin QFN; DatasheetVersion: revC, Feb-2010; PackageVersion: rev1, Nov-2005; PackageReference: 24QFN5X5; PackageDescription: 24-Pin Quad Flat No-Lead, 5 x 5 mm Body, 0.65 mm Pitch, 3.6 x 3.6 mm Exposed Pad; Code_JEDEC: MO-220; ComponentLink1Description: Manufacturer URL; ComponentLink1URL: http://www.atmel.com/; ComponentLink2Description: Datasheet; ComponentLink2URL: http://www.atmel.com/Images/doc9140.pdf
footprint 24QFN5X5_N (QFN, 24-Leads, Body 5x5mm, Pitch 0.65mm, Thermal Pad 3.7x3.7mm, IPC Medium Density)
footprint 24QFN5X5_L (QFN, 24-Leads, Body 5x5mm, Pitch 0.65mm, Thermal Pad 3.7x3.7mm, IPC High Density)
footprint 24QFN5X5_M (QFN, 24-Leads, Body 5x5mm, Pitch 0.65mm, Thermal Pad 3.7x3.7mm, IPC Low Density)
pins: 1 VCC (power), 2 PB0 (io), 3 PB1 (io), 4 PB3/~{RESET} (io), 5 PB2 (io), 6 PA7 (io), 7 PA6/MOSI (io), 8 CLK (out), 9 PA_ENABLE (in), 10 ANT2 (oe), 11 ANT1 (oc), 12 GND (power), 13 PA5/MISO (io), 14 PA4/SCK (io), 15 PA3/T0 (io), 16 PA2 (io), 17 PA1 (io), 18 PA0 (io), 19 GND (power), 20 XTAL, 21 VS_RF (power), 22 GND_RF (power), 23 ENABLE (in), 24 GND (power), 25 EP (power)

## ATA8742-PXQW
designator U?
Microcontroller with UHF ASK/FSK Transmitter for 429 to 439 MHz, 24-Pin QFN; DatasheetVersion: revA, Jul-2009; PackageVersion: rev1, Nov-2005; PackageReference: 24QFN5X5; PackageDescription: 24-Pin Quad Flat No-Lead, 5 x 5 mm Body, 0.65 mm Pitch, 3.6 x 3.6 mm Exposed Pad; Code_JEDEC: MO-220; ComponentLink1Description: Manufacturer URL; ComponentLink1URL: http://www.atmel.com/; ComponentLink2Description: Datasheet; ComponentLink2URL: http://www.atmel.com/Images/doc9151.pdf
footprint 24QFN5X5_N (QFN, 24-Leads, Body 5x5mm, Pitch 0.65mm, Thermal Pad 3.7x3.7mm, IPC Medium Density)
footprint 24QFN5X5_L (QFN, 24-Leads, Body 5x5mm, Pitch 0.65mm, Thermal Pad 3.7x3.7mm, IPC High Density)
footprint 24QFN5X5_M (QFN, 24-Leads, Body 5x5mm, Pitch 0.65mm, Thermal Pad 3.7x3.7mm, IPC Low Density)
pins: 1 VCC (power), 2 PB0 (io), 3 PB1 (io), 4 PB3/~{RESET} (io), 5 PB2 (io), 6 PA7 (io), 7 PA6/MOSI (io), 8 CLK (out), 9 PA_ENABLE (in), 10 ANT2 (oe), 11 ANT1 (oc), 12 GND (power), 13 PA5/MISO (io), 14 PA4/SCK (io), 15 PA3/T0 (io), 16 PA2 (io), 17 PA1 (io), 18 PA0 (io), 19 GND (power), 20 XTAL, 21 VS_RF (power), 22 GND_RF (power), 23 ENABLE (in), 24 GND (power), 25 EP (power)

## ATA8743-PXQW
designator U?
Microcontroller with UHF ASK/FSK Transmitter for 868 to 928 MHz, 24-Pin QFN; DatasheetVersion: revB, Feb-2010; PackageVersion: rev1, Nov-2005; PackageReference: 24QFN5X5; PackageDescription: 24-Pin Quad Flat No-Lead, 5 x 5 mm Body, 0.65 mm Pitch, 3.6 x 3.6 mm Exposed Pad; Code_JEDEC: MO-220; ComponentLink1Description: Manufacturer URL; ComponentLink1URL: http://www.atmel.com/; ComponentLink2Description: Datasheet; ComponentLink2URL: http://www.atmel.com/Images/doc9152.pdf
footprint 24QFN5X5_N (QFN, 24-Leads, Body 5x5mm, Pitch 0.65mm, Thermal Pad 3.7x3.7mm, IPC Medium Density)
footprint 24QFN5X5_L (QFN, 24-Leads, Body 5x5mm, Pitch 0.65mm, Thermal Pad 3.7x3.7mm, IPC High Density)
footprint 24QFN5X5_M (QFN, 24-Leads, Body 5x5mm, Pitch 0.65mm, Thermal Pad 3.7x3.7mm, IPC Low Density)
pins: 1 VCC (power), 2 PB0 (io), 3 PB1 (io), 4 PB3/~{RESET} (io), 5 PB2 (io), 6 PA7 (io), 7 PA6/MOSI (io), 8 CLK (out), 9 PA_ENABLE (in), 10 ANT2 (oe), 11 ANT1 (oc), 12 GND (power), 13 PA5/MISO (io), 14 PA4/SCK (io), 15 PA3/T0 (io), 16 PA2 (io), 17 PA1 (io), 18 PA0 (io), 19 GND (power), 20 XTAL, 21 VS_RF (power), 22 GND_RF (power), 23 ENABLE (in), 24 GND (power), 25 EP (power)

## ATR2406-PNQG
designator U?
Low-IF 2.4-GHz ISM Transceiver, 32-Pin QFM, Pb-Free, 4K Reel; DatasheetVersion: revN, Dec-2008; PackageVersion: rev1, Jan-2003; PackageReference: 32QFN5X5; PackageDescription: 32-Pin Quad Flat No-Lead (QFN) Sawn,  5 x 5 x 1.0 mm Body, Pitch 0.50 mm, 3.70mm Exposed Pad; ComponentLink1Description: Manufacturer URL; ComponentLink1URL: http://www.atmel.com/; ComponentLink2Description: Datasheet; ComponentLink2URL: http://www.atmel.com/Images/doc4779.pdf
footprint 32QFN5X5_N (QFN, 32-Leads, Body 5x5mm, Pitch 0.5mm, Thermal Pad 3.8x3.8mm, IPC Medium Density)
footprint 32QFN5X5_L (QFN, 32-Leads, Body 5x5mm, Pitch 0.5mm, Thermal Pad 3.8x3.8mm, IPC High Density)
footprint 32QFN5X5_M (QFN, 32-Leads, Body 5x5mm, Pitch 0.5mm, Thermal Pad 3.8x3.8mm, IPC Low Density)
pins: 1 PU_REG (in), 2 REF_CLK (in), 3 RSSI (out), 4 VS_IFD (power), 5 VS_IFA (power), 6 RX-CLOCK (out), 7 IC (power), 8 IREF, 9 REG_CTRL (out), 10 VREG (power), 11 VS_REG (power), 12 REG_DEC, 13 VREG_VCO (power), 14 VTUNE (in), 15 CP (out), 16 VS_SYN (power), 17 VS_TRX (power), 18 RX_IN2 (in), 19 RX_IN1 (in), 20 TX_OUT (out), 21 RAMP_OUT (out), 22 IC, 23 IC, 24 RX_ON (in), 25 TX_ON (in), 26 nOLE (in), 27 PU_TRX (in), 28 RX_DATA (out), 29 TX_DATA (in), 30 CLOCK (in), 31 DATA (in), 32 ENABLE (in), 33 GND (power)

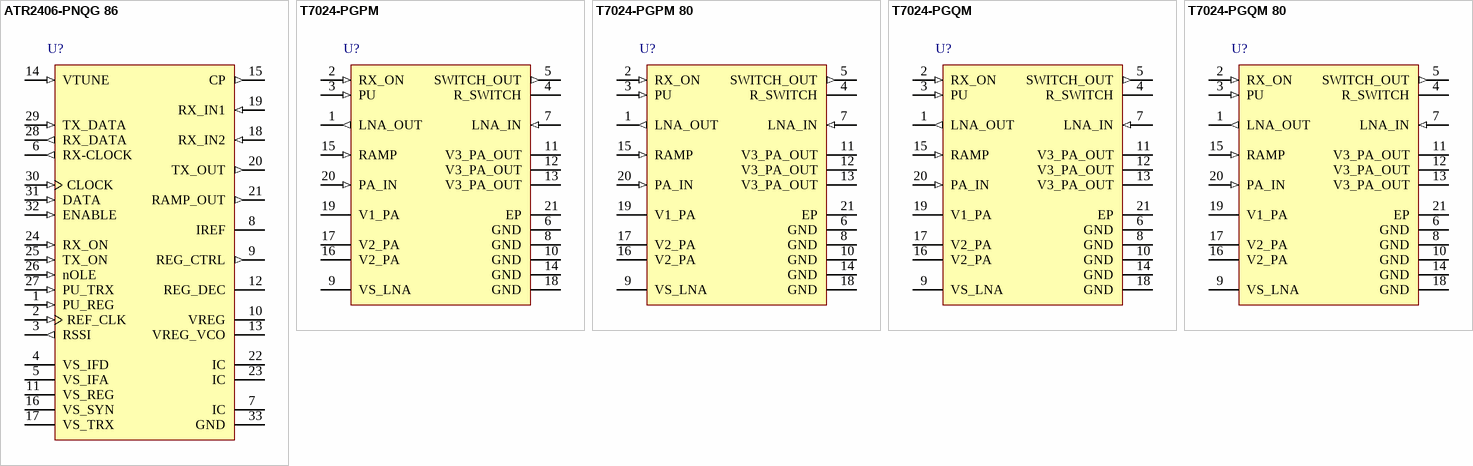
[diagram p2: symbols ATR2406-PNQG 86 to T7024-PGQM 80]

## ATR2406-PNQG 86
designator U?
Low-IF 2.4-GHz ISM Transceiver, 32-Pin QFM, Pb-Free, 4K Reel; DatasheetVersion: revN, Dec-2008; PackageVersion: rev1, Jan-2003; PackageReference: 32QFN5X5; PackageDescription: 32-Pin Quad Flat No-Lead (QFN) Sawn,  5 x 5 x 1.0 mm Body, Pitch 0.50 mm, 3.70mm Exposed Pad; ComponentLink1Description: Manufacturer URL; ComponentLink1URL: http://www.atmel.com/; ComponentLink2Description: Datasheet; ComponentLink2URL: http://www.atmel.com/Images/doc4779.pdf
footprint 32QFN5X5_N (QFN, 32-Leads, Body 5x5mm, Pitch 0.5mm, Thermal Pad 3.8x3.8mm, IPC Medium Density)
footprint 32QFN5X5_L (QFN, 32-Leads, Body 5x5mm, Pitch 0.5mm, Thermal Pad 3.8x3.8mm, IPC High Density)
footprint 32QFN5X5_M (QFN, 32-Leads, Body 5x5mm, Pitch 0.5mm, Thermal Pad 3.8x3.8mm, IPC Low Density)
pins: 1 PU_REG (in), 2 REF_CLK (in), 3 RSSI (out), 4 VS_IFD (power), 5 VS_IFA (power), 6 RX-CLOCK (out), 7 IC (power), 8 IREF, 9 REG_CTRL (out), 10 VREG (power), 11 VS_REG (power), 12 REG_DEC, 13 VREG_VCO (power), 14 VTUNE (in), 15 CP (out), 16 VS_SYN (power), 17 VS_TRX (power), 18 RX_IN2 (in), 19 RX_IN1 (in), 20 TX_OUT (out), 21 RAMP_OUT (out), 22 IC, 23 IC, 24 RX_ON (in), 25 TX_ON (in), 26 nOLE (in), 27 PU_TRX (in), 28 RX_DATA (out), 29 TX_DATA (in), 30 CLOCK (in), 31 DATA (in), 32 ENABLE (in), 33 GND (power)

## T7024-PGPM
designator U?
Bluetooth/ISM 2.4-GHz Front-end IC, 20-Pin QFN, Pb-Free, 1.5K Reel; DatasheetVersion: revI, Jan-2009; PackageVersion: rev1, Dec-2002; PackageReference: QFN20; PackageDescription: 20-Pin Quad Flat No-Lead, 5 x 5 mm Body, 0.65 mm Pitch, 3.1 x 3.1 mm Exposed Pad; ComponentLink1Description: Manufacturer URL; ComponentLink1URL: http://www.atmel.com/; ComponentLink2Description: Datasheet; ComponentLink2URL: http://www.atmel.com/Images/doc4533.pdf
footprint QFN20_N (QFN, 20-Leads, Body 5x5mm, Pitch 0.65mm, Thermal Pad 3.2x3.2mm, IPC Medium Density)
footprint QFN20_L (QFN, 20-Leads, Body 5x5mm, Pitch 0.65mm, Thermal Pad 3.2x3.2mm, IPC High Density)
footprint QFN20_M (QFN, 20-Leads, Body 5x5mm, Pitch 0.65mm, Thermal Pad 3.2x3.2mm, IPC Low Density)
pins: 1 LNA_OUT (out), 2 RX_ON (in), 3 PU (in), 4 R_SWITCH, 5 SWITCH_OUT (out), 6 GND (power), 7 LNA_IN (in), 8 GND (power), 9 VS_LNA (power), 10 GND (power), 11 V3_PA_OUT (power), 12 V3_PA_OUT (power), 13 V3_PA_OUT (power), 14 GND (power), 15 RAMP (in), 16 V2_PA (power), 17 V2_PA (power), 18 GND (power), 19 V1_PA (power), 20 PA_IN (in), 21 EP (power)

## T7024-PGPM 80
designator U?
Bluetooth/ISM 2.4-GHz Front-end IC, 20-Pin QFN; DatasheetVersion: revI, Jan-2009; PackageVersion: rev1, Dec-2002; PackageReference: QFN20; PackageDescription: 20-Pin Quad Flat No-Lead, 5 x 5 mm Body, 0.65 mm Pitch, 3.1 x 3.1 mm Exposed Pad; ComponentLink1Description: Manufacturer URL; ComponentLink1URL: http://www.atmel.com/; ComponentLink2Description: Datasheet; ComponentLink2URL: http://www.atmel.com/Images/doc4533.pdf
footprint QFN20_N (QFN, 20-Leads, Body 5x5mm, Pitch 0.65mm, Thermal Pad 3.2x3.2mm, IPC Medium Density)
footprint QFN20_L (QFN, 20-Leads, Body 5x5mm, Pitch 0.65mm, Thermal Pad 3.2x3.2mm, IPC High Density)
footprint QFN20_M (QFN, 20-Leads, Body 5x5mm, Pitch 0.65mm, Thermal Pad 3.2x3.2mm, IPC Low Density)
pins: 1 LNA_OUT (out), 2 RX_ON (in), 3 PU (in), 4 R_SWITCH, 5 SWITCH_OUT (out), 6 GND (power), 7 LNA_IN (in), 8 GND (power), 9 VS_LNA (power), 10 GND (power), 11 V3_PA_OUT (power), 12 V3_PA_OUT (power), 13 V3_PA_OUT (power), 14 GND (power), 15 RAMP (in), 16 V2_PA (power), 17 V2_PA (power), 18 GND (power), 19 V1_PA (power), 20 PA_IN (in), 21 EP (power)

## T7024-PGQM
designator U?
Bluetooth/ISM 2.4-GHz Front-end IC, 20-Pin QFN, Pb-Free, 6K Reel; DatasheetVersion: revI, Jan-2009; PackageVersion: rev1, Dec-2002; PackageReference: QFN20; PackageDescription: 20-Pin Quad Flat No-Lead, 5 x 5 mm Body, 0.65 mm Pitch, 3.1 x 3.1 mm Exposed Pad; ComponentLink1Description: Manufacturer URL; ComponentLink1URL: http://www.atmel.com/; ComponentLink2Description: Datasheet; ComponentLink2URL: http://www.atmel.com/Images/doc4533.pdf
footprint QFN20_N (QFN, 20-Leads, Body 5x5mm, Pitch 0.65mm, Thermal Pad 3.2x3.2mm, IPC Medium Density)
footprint QFN20_L (QFN, 20-Leads, Body 5x5mm, Pitch 0.65mm, Thermal Pad 3.2x3.2mm, IPC High Density)
footprint QFN20_M (QFN, 20-Leads, Body 5x5mm, Pitch 0.65mm, Thermal Pad 3.2x3.2mm, IPC Low Density)
pins: 1 LNA_OUT (out), 2 RX_ON (in), 3 PU (in), 4 R_SWITCH, 5 SWITCH_OUT (out), 6 GND (power), 7 LNA_IN (in), 8 GND (power), 9 VS_LNA (power), 10 GND (power), 11 V3_PA_OUT (power), 12 V3_PA_OUT (power), 13 V3_PA_OUT (power), 14 GND (power), 15 RAMP (in), 16 V2_PA (power), 17 V2_PA (power), 18 GND (power), 19 V1_PA (power), 20 PA_IN (in), 21 EP (power)

## T7024-PGQM 80
designator U?
Bluetooth/ISM 2.4-GHz Front-end IC, 20-Pin QFN; DatasheetVersion: revI, Jan-2009; PackageVersion: rev1, Dec-2002; PackageReference: QFN20; PackageDescription: 20-Pin Quad Flat No-Lead, 5 x 5 mm Body, 0.65 mm Pitch, 3.1 x 3.1 mm Exposed Pad; ComponentLink1Description: Manufacturer URL; ComponentLink1URL: http://www.atmel.com/; ComponentLink2Description: Datasheet; ComponentLink2URL: http://www.atmel.com/Images/doc4533.pdf
footprint QFN20_N (QFN, 20-Leads, Body 5x5mm, Pitch 0.65mm, Thermal Pad 3.2x3.2mm, IPC Medium Density)
footprint QFN20_L (QFN, 20-Leads, Body 5x5mm, Pitch 0.65mm, Thermal Pad 3.2x3.2mm, IPC High Density)
footprint QFN20_M (QFN, 20-Leads, Body 5x5mm, Pitch 0.65mm, Thermal Pad 3.2x3.2mm, IPC Low Density)
pins: 1 LNA_OUT (out), 2 RX_ON (in), 3 PU (in), 4 R_SWITCH, 5 SWITCH_OUT (out), 6 GND (power), 7 LNA_IN (in), 8 GND (power), 9 VS_LNA (power), 10 GND (power), 11 V3_PA_OUT (power), 12 V3_PA_OUT (power), 13 V3_PA_OUT (power), 14 GND (power), 15 RAMP (in), 16 V2_PA (power), 17 V2_PA (power), 18 GND (power), 19 V1_PA (power), 20 PA_IN (in), 21 EP (power)